# Altium footprint library CONN_HDR_MINI.PcbLib: 37 footprints (part 2 of 3)
Each footprint in its own frame and in the unit in brackets; x right, y up, seen from the top. Pads: shape width x height; smd on the part's side, far side on the other; paste and mask are expansions set on the pad; w line width, h text height; cw(c..) or ccw(c..) is an arc to the next point about the centre after c.
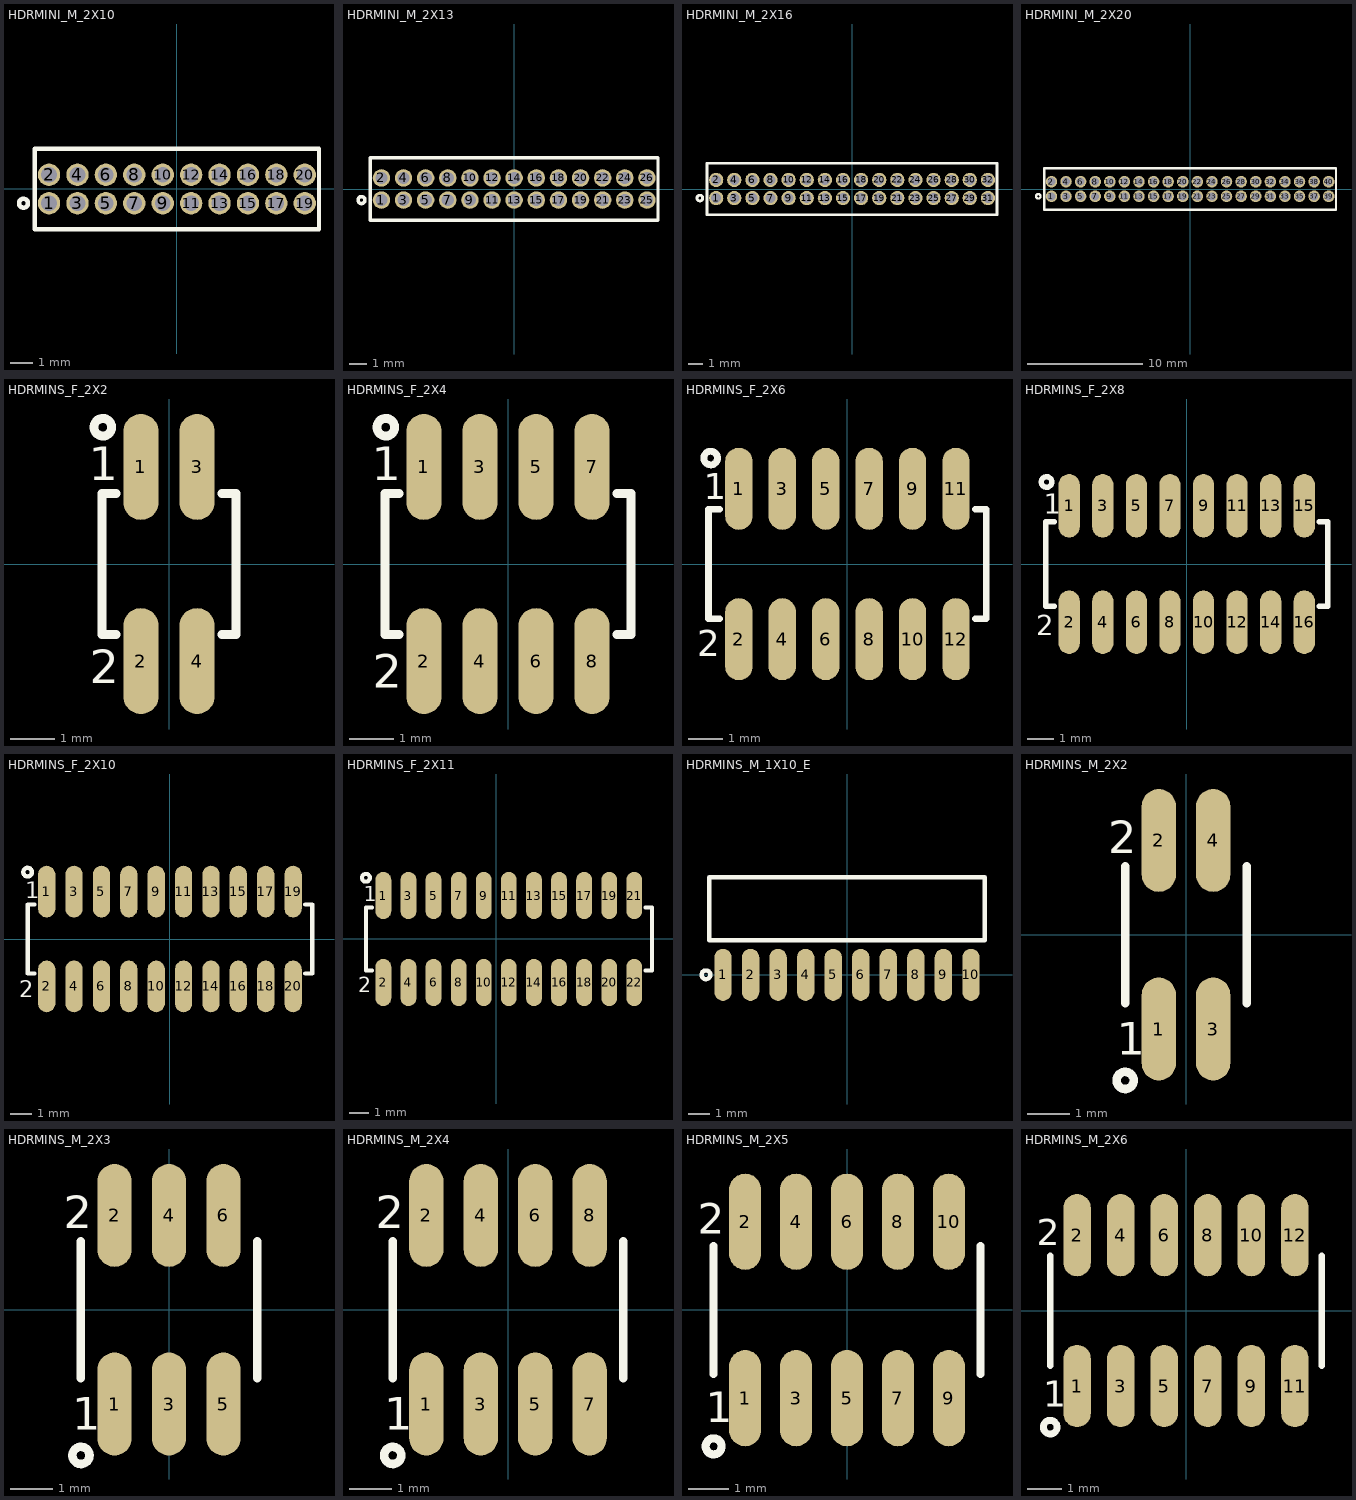
[diagram p1: the footprints below, top view; thin cyan lines are the x and y axes]

## HDRMINI_M_2X10 [mm] "mini header (50mil pitch)"
pads (20):
  round 1 hole 0.7 mask+0.05: 1(-5.715,-0.635) 2(-5.715,0.635) 3(-4.445,-0.635) 4(-4.445,0.635) 5(-3.175,-0.635) 6(-3.175,0.635) 7(-1.905,-0.635) 8(-1.905,0.635) 9(-0.635,-0.635) 10(-0.635,0.635) 11(0.635,-0.635) 12(0.635,0.635) 13(1.905,-0.635) 14(1.905,0.635) 15(3.175,-0.635) 16(3.175,0.635) 17(4.445,-0.635) 18(4.445,0.635) 19(5.715,-0.635) 20(5.715,0.635)
Top Overlay:
  circle w0.2: c-6.858,-0.635 r0.2
  lines w0.2: -6.35,-1.8 -6.35,1.8 6.35,1.8 6.35,-1.8 -6.35,-1.8
3D body "20021111-00004XXLFc.stp": height 5.6, standoff -2.25, extent 3.81,-1.7 6.35,1.7
3D body "20021111-00004XXLFc.stp": height 5.6, standoff -2.25, extent -1.27,-1.7 1.27,1.7
3D body "20021111-00004XXLFc.stp": height 5.6, standoff -2.25, extent 1.27,-1.7 3.81,1.7
3D body "20021111-00004XXLFc.stp": height 5.6, standoff -2.25, extent -6.35,-1.7 -3.81,1.7
3D body "20021111-00004XXLFc.stp": height 5.6, standoff -2.25, extent -3.81,-1.7 -1.27,1.7

## HDRMINI_M_2X13 [mm] "mini header (50mil pitch)"
pads (26):
  round 1 hole 0.7 mask+0.05: 1(-7.62,-0.635) 2(-7.62,0.635) 3(-6.35,-0.635) 4(-6.35,0.635) 5(-5.08,-0.635) 6(-5.08,0.635) 7(-3.81,-0.635) 8(-3.81,0.635) 9(-2.54,-0.635) 10(-2.54,0.635) 11(-1.27,-0.635) 12(-1.27,0.635) 13(0,-0.635) 14(0,0.635) 15(1.27,-0.635) 16(1.27,0.635) 17(2.54,-0.635) 18(2.54,0.635) 19(3.81,-0.635) 20(3.81,0.635) 21(5.08,-0.635) 22(5.08,0.635) 23(6.35,-0.635) 24(6.35,0.635) 25(7.62,-0.635) 26(7.62,0.635)
Top Overlay:
  circle w0.2: c-8.763,-0.635 r0.2
  lines w0.2: -8.255,-1.8 -8.255,1.8 8.255,1.8 8.255,-1.8 -8.255,-1.8
3D body "20021111-00004XXLFc.stp": height 5.6, standoff -2.25, extent 1.905,-1.7 4.445,1.7
3D body "20021111-00004XXLFc.stp": height 5.6, standoff -2.25, extent -3.175,-1.7 -0.635,1.7
3D body "20021111-00004XXLFc.stp": height 5.6, standoff -2.25, extent -0.635,-1.7 1.905,1.7
3D body "20021111-00004XXLFc.stp": height 5.6, standoff -2.25, extent -8.255,-1.7 -5.715,1.7
3D body "20021111-00004XXLFc.stp": height 5.6, standoff -2.25, extent -5.715,-1.7 -3.175,1.7
3D body "20021111-00006XXLFc.stp": height 5.6, standoff -2.25, extent 4.445,-1.7 8.255,1.7

## HDRMINI_M_2X16 [mm] "mini header (50mil pitch)"
pads (32):
  round 1 hole 0.7 mask+0.05: 1(-9.525,-0.635) 2(-9.525,0.635) 3(-8.255,-0.635) 4(-8.255,0.635) 5(-6.985,-0.635) 6(-6.985,0.635) 7(-5.715,-0.635) 8(-5.715,0.635) 9(-4.445,-0.635) 10(-4.445,0.635) 11(-3.175,-0.635) 12(-3.175,0.635) 13(-1.905,-0.635) 14(-1.905,0.635) 15(-0.635,-0.635) 16(-0.635,0.635) 17(0.635,-0.635) 18(0.635,0.635) 19(1.905,-0.635) 20(1.905,0.635) 21(3.175,-0.635) 22(3.175,0.635) 23(4.445,-0.635) 24(4.445,0.635) 25(5.715,-0.635) 26(5.715,0.635) 27(6.985,-0.635) 28(6.985,0.635) 29(8.255,-0.635) 30(8.255,0.635) 31(9.525,-0.635) 32(9.525,0.635)
Top Overlay:
  circle w0.2: c-10.668,-0.635 r0.2
  lines w0.2: -10.16,-1.8 10.16,-1.8 10.16,1.8 -10.16,1.8 -10.16,-1.8
3D body "20021111-00004XXLFc.stp": height 5.6, standoff -2.25, extent -5.08,-1.7 -2.54,1.7
3D body "20021111-00004XXLFc.stp": height 5.6, standoff -2.25, extent -2.54,-1.7 0,1.7
3D body "20021111-00004XXLFc.stp": height 5.6, standoff -2.25, extent -10.16,-1.7 -7.62,1.7
3D body "20021111-00004XXLFc.stp": height 5.6, standoff -2.25, extent -7.62,-1.7 -5.08,1.7
3D body "20021111-00004XXLFc.stp": height 5.6, standoff -2.25, extent 5.08,-1.7 7.62,1.7
3D body "20021111-00004XXLFc.stp": height 5.6, standoff -2.25, extent 7.62,-1.7 10.16,1.7
3D body "20021111-00004XXLFc.stp": height 5.6, standoff -2.25, extent 0,-1.7 2.54,1.7
3D body "20021111-00004XXLFc.stp": height 5.6, standoff -2.25, extent 2.54,-1.7 5.08,1.7

## HDRMINI_M_2X20 [mm] "mini header (50mil pitch)"
pads (40):
  round 1 hole 0.7 mask+0.05: 1(-12.065,-0.635) 2(-12.065,0.635) 3(-10.795,-0.635) 4(-10.795,0.635) 5(-9.525,-0.635) 6(-9.525,0.635) 7(-8.255,-0.635) 8(-8.255,0.635) 9(-6.985,-0.635) 10(-6.985,0.635) 11(-5.715,-0.635) 12(-5.715,0.635) 13(-4.445,-0.635) 14(-4.445,0.635) 15(-3.175,-0.635) 16(-3.175,0.635) 17(-1.905,-0.635) 18(-1.905,0.635) 19(-0.635,-0.635) 20(-0.635,0.635) 21(0.635,-0.635) 22(0.635,0.635) 23(1.905,-0.635) 24(1.905,0.635) 25(3.175,-0.635) 26(3.175,0.635) 27(4.445,-0.635) 28(4.445,0.635) 29(5.715,-0.635) 30(5.715,0.635) 31(6.985,-0.635) 32(6.985,0.635) 33(8.255,-0.635) 34(8.255,0.635) 35(9.525,-0.635) 36(9.525,0.635) 37(10.795,-0.635) 38(10.795,0.635) 39(12.065,-0.635) 40(12.065,0.635)
Top Overlay:
  circle w0.2: c-13.208,-0.635 r0.2
  lines w0.2: -12.7,-1.8 -12.7,1.8 12.7,1.8 12.7,-1.8 -12.7,-1.8
3D body "20021111-00004XXLFc.stp": height 5.6, standoff -2.25, extent 10.16,-1.7 12.7,1.7
3D body "20021111-00004XXLFc.stp": height 5.6, standoff -2.25, extent 7.62,-1.7 10.16,1.7
3D body "20021111-00004XXLFc.stp": height 5.6, standoff -2.25, extent 0,-1.7 2.54,1.7
3D body "20021111-00004XXLFc.stp": height 5.6, standoff -2.25, extent -2.54,-1.7 0,1.7
3D body "20021111-00004XXLFc.stp": height 5.6, standoff -2.25, extent 5.08,-1.7 7.62,1.7
3D body "20021111-00004XXLFc.stp": height 5.6, standoff -2.25, extent 2.54,-1.7 5.08,1.7
3D body "20021111-00004XXLFc.stp": height 5.6, standoff -2.25, extent -10.16,-1.7 -7.62,1.7
3D body "20021111-00004XXLFc.stp": height 5.6, standoff -2.25, extent -12.7,-1.7 -10.16,1.7
3D body "20021111-00004XXLFc.stp": height 5.6, standoff -2.25, extent -5.08,-1.7 -2.54,1.7
3D body "20021111-00004XXLFc.stp": height 5.6, standoff -2.25, extent -7.62,-1.7 -5.08,1.7

## HDRMINS_F_2X2 [mm] "HEADER FEMALE, SMT, 4, 1.27mm"
pads (4):
  oval 0.8x2.4 smd: 1(-0.635,2.2) 2(-0.635,-2.2) 3(0.635,2.2) 4(0.635,-2.2)
Top Overlay:
  circle w0.2: c-1.5,3.1 r0.2
  lines w0.2: -1.2,-1.6 -1.52,-1.6 -1.52,1.6 -1.2,1.6 ; 1.2,-1.6 1.52,-1.6 1.52,1.6 1.2,1.6
  text "2" at -1.8,-2.7 h0.76
  text "1" at -1.82,1.9 h0.76
3D body "User Library-1_27x1_27-SMD-female-2x2.step": height 4.5, standoff 0, extent -1.46,-2.3 1.46,2.3

## HDRMINS_F_2X4 [mm] "HEADER FEMALE, SMT, 8, 1.27mm"
pads (8):
  oval 0.8x2.4 smd: 1(-1.905,2.2) 2(-1.905,-2.2) 3(-0.635,2.2) 4(-0.635,-2.2) 5(0.635,2.2) 6(0.635,-2.2) 7(1.905,2.2) 8(1.905,-2.2)
Top Overlay:
  circle w0.2: c-2.77,3.1 r0.2
  lines w0.2: -2.47,-1.6 -2.79,-1.6 -2.79,1.6 -2.47,1.6 ; 2.47,-1.6 2.79,-1.6 2.79,1.6 2.47,1.6
  text "1" at -3.09,1.9 h0.76
  text "2" at -3.07,-2.8 h0.76
3D body "User Library-1_27x1_27-SMD-female-2x2.step": height 4.5, standoff 0, extent -0.19,-2.3 2.73,2.3
3D body "User Library-1_27x1_27-SMD-female-2x2.step": height 4.5, standoff 0, extent -2.73,-2.3 0.19,2.3

## HDRMINS_F_2X6 [mm] "HEADER FEMALE, SMT, 12, 1.27mm"
pads (12):
  oval 0.8x2.4 smd: 1(-3.175,2.2) 2(-3.175,-2.2) 3(-1.905,2.2) 4(-1.905,-2.2) 5(-0.635,2.2) 6(-0.635,-2.2) 7(0.635,2.2) 8(0.635,-2.2) 9(1.905,2.2) 10(1.905,-2.2) 11(3.175,2.2) 12(3.175,-2.2)
Top Overlay:
  circle w0.2: c-4,3.1 r0.2
  lines w0.2: -3.74,-1.6 -4.06,-1.6 -4.06,1.6 -3.74,1.6 ; 3.74,-1.6 4.06,-1.6 4.06,1.6 3.74,1.6
  text "1" at -4.2,1.9 h0.76
  text "2" at -4.4,-2.7 h0.76
3D body "User Library-1_27x1_27-SMD-female-2x2.step": height 4.5, standoff 0, extent 1.08,-2.3 4,2.3
3D body "User Library-1_27x1_27-SMD-female-2x2.step": height 4.5, standoff 0, extent -4,-2.3 -1.08,2.3
3D body "User Library-1_27x1_27-SMD-female-2x2.step": height 4.5, standoff 0, extent -1.46,-2.3 1.46,2.3

## HDRMINS_F_2X8 [mm] "HEADER FEMALE, SMT, 16, 1.27mm"
pads (16):
  oval 0.8x2.4 smd: 1(-4.445,2.2) 2(-4.445,-2.2) 3(-3.175,2.2) 4(-3.175,-2.2) 5(-1.905,2.2) 6(-1.905,-2.2) 7(-0.635,2.2) 8(-0.635,-2.2) 9(0.635,2.2) 10(0.635,-2.2) 11(1.905,2.2) 12(1.905,-2.2) 13(3.175,2.2) 14(3.175,-2.2) 15(4.445,2.2) 16(4.445,-2.2)
Top Overlay:
  circle w0.2: c-5.3,3.1 r0.2
  lines w0.2: -5.01,-1.6 -5.33,-1.6 -5.33,1.6 -5.01,1.6 ; 5.01,-1.6 5.33,-1.6 5.33,1.6 5.01,1.6
  text "2" at -5.7,-2.7 h0.76
  text "1" at -5.4,1.9 h0.76
3D body "User Library-1_27x1_27-SMD-female-2x2.step": height 4.5, standoff 0, extent 2.35,-2.3 5.27,2.3
3D body "User Library-1_27x1_27-SMD-female-2x2.step": height 4.5, standoff 0, extent -0.19,-2.3 2.73,2.3
3D body "User Library-1_27x1_27-SMD-female-2x2.step": height 4.5, standoff 0, extent -2.73,-2.3 0.19,2.3
3D body "User Library-1_27x1_27-SMD-female-2x2.step": height 4.5, standoff 0, extent -5.27,-2.3 -2.35,2.3

## HDRMINS_F_2X10 [mm] "HEADER FEMALE, SMT, 20, 1.27mm"
pads (20):
  oval 0.8x2.4 smd: 1(-5.715,2.2) 2(-5.715,-2.2) 3(-4.445,2.2) 4(-4.445,-2.2) 5(-3.175,2.2) 6(-3.175,-2.2) 7(-1.905,2.2) 8(-1.905,-2.2) 9(-0.635,2.2) 10(-0.635,-2.2) 11(0.635,2.2) 12(0.635,-2.2) 13(1.905,2.2) 14(1.905,-2.2) 15(3.175,2.2) 16(3.175,-2.2) 17(4.445,2.2) 18(4.445,-2.2) 19(5.715,2.2) 20(5.715,-2.2)
Top Overlay:
  circle w0.2: c-6.6,3.1 r0.2
  lines w0.2: -6.28,-1.6 -6.6,-1.6 -6.6,1.6 -6.28,1.6 ; 6.28,-1.6 6.6,-1.6 6.6,1.6 6.28,1.6
  text "2" at -7,-2.7 h0.76
  text "1" at -6.7,1.9 h0.76
3D body "User Library-1_27x1_27-SMD-female-2x2.step": height 4.5, standoff 0, extent -6.54,-2.3 -3.62,2.3
3D body "User Library-1_27x1_27-SMD-female-2x2.step": height 4.5, standoff 0, extent -4,-2.3 -1.08,2.3
3D body "User Library-1_27x1_27-SMD-female-2x2.step": height 4.5, standoff 0, extent -1.46,-2.3 1.46,2.3
3D body "User Library-1_27x1_27-SMD-female-2x2.step": height 4.5, standoff 0, extent 1.08,-2.3 4,2.3
3D body "User Library-1_27x1_27-SMD-female-2x2.step": height 4.5, standoff 0, extent 3.62,-2.3 6.54,2.3

## HDRMINS_F_2X11 [mm] "HEADER FEMALE, SMT, 20, 1.27mm"
pads (22):
  oval 0.8x2.4 smd: 1(-5.715,2.2) 2(-5.715,-2.2) 3(-4.445,2.2) 4(-4.445,-2.2) 5(-3.175,2.2) 6(-3.175,-2.2) 7(-1.905,2.2) 8(-1.905,-2.2) 9(-0.635,2.2) 10(-0.635,-2.2) 11(0.635,2.2) 12(0.635,-2.2) 13(1.905,2.2) 14(1.905,-2.2) 15(3.175,2.2) 16(3.175,-2.2) 17(4.445,2.2) 18(4.445,-2.2) 19(5.715,2.2) 20(5.715,-2.2) 21(6.985,2.2) 22(6.985,-2.2)
Top Overlay:
  circle w0.2: c-6.6,3.1 r0.2
  lines w0.2: -6.28,-1.6 -6.6,-1.6 -6.6,1.6 -6.28,1.6 ; 7.55,-1.6 7.87,-1.6 7.87,1.6 7.55,1.6
  text "2" at -7,-2.7 h0.76
  text "1" at -6.7,1.9 h0.76
3D body "User Library-1_27x1_27-SMD-female-2x2.step": height 4.5, standoff 0, extent -6.54,-2.3 -3.62,2.3
3D body "User Library-1_27x1_27-SMD-female-2x2.step": height 4.5, standoff 0, extent -4,-2.3 -1.08,2.3
3D body "User Library-1_27x1_27-SMD-female-2x2.step": height 4.5, standoff 0, extent -1.46,-2.3 1.46,2.3
3D body "User Library-1_27x1_27-SMD-female-2x2.step": height 4.5, standoff 0, extent 1.08,-2.3 4,2.3
3D body "User Library-1_27x1_27-SMD-female-2x2.step": height 4.5, standoff 0, extent 3.62,-2.3 6.54,2.3

## HDRMINS_M_1X10_E [mm] "mini header (50mil pitch)"
pads (10):
  oval 0.8x2.4 smd mask+0.05: 1(-5.715,0) 2(-4.445,0) 3(-3.175,0) 4(-1.905,0) 5(-0.635,0) 6(0.635,0) 7(1.905,0) 8(3.175,0) 9(4.445,0) 10(5.715,0)
Top Overlay:
  circle w0.2: c-6.5,0 r0.2
  lines w0.2: -6.35,1.6 6.35,1.6 6.35,4.5 -6.35,4.5 -6.35,1.6
3D body: height 0.84, standoff -0.44, extent -6.35,1.6 -5.08,4.4
3D body: height 0.4, standoff 0, extent -5.915,-0.9 -5.515,8.9
3D body: height 0.4, standoff 0, extent -4.645,-0.9 -4.245,8.9
3D body: height 0.84, standoff -0.44, extent -5.08,1.6 -3.81,4.4
3D body: height 0.4, standoff 0, extent -3.375,-0.9 -2.975,8.9
3D body: height 0.84, standoff -0.44, extent -3.81,1.6 -2.54,4.4
3D body: height 0.4, standoff 0, extent -2.105,-0.9 -1.705,8.9
3D body: height 0.84, standoff -0.44, extent -2.54,1.6 -1.27,4.4
3D body: height 0.4, standoff 0, extent -0.835,-0.9 -0.435,8.9
3D body: height 0.84, standoff -0.44, extent -1.27,1.6 0,4.4
3D body: height 0.4, standoff 0, extent 0.435,-0.9 0.835,8.9
3D body: height 0.84, standoff -0.44, extent 0,1.6 1.27,4.4
3D body: height 0.4, standoff 0, extent 1.705,-0.9 2.105,8.9
3D body: height 0.84, standoff -0.44, extent 1.27,1.6 2.54,4.4
3D body: height 0.4, standoff 0, extent 2.975,-0.9 3.375,8.9
3D body: height 0.84, standoff -0.44, extent 2.54,1.6 3.81,4.4
3D body: height 0.4, standoff 0, extent 4.245,-0.9 4.645,8.9
3D body: height 0.84, standoff -0.44, extent 3.81,1.6 5.08,4.4
3D body: height 0.4, standoff 0, extent 5.515,-0.9 5.915,8.9
3D body: height 0.84, standoff -0.44, extent 5.08,1.6 6.35,4.4

## HDRMINS_M_2X2 [mm] "FCI Minitek127® BTB, HEADER UNSHROUDED, SMT, 4, 1.27mm"
pads (4):
  oval 0.8x2.4 smd: 1(-0.635,-2.2) 2(-0.635,2.2) 3(0.635,-2.2) 4(0.635,2.2)
Top Overlay:
  circle w0.2: c-1.42,-3.4 r0.2
  lines w0.2: -1.42,-1.6 -1.42,1.6 ; 1.42,-1.6 1.42,1.6
  text "1" at -1.62,-2.8 h0.76
  text "2" at -1.82,1.9 h0.76
3D body "20021121-00004XXLFc.stp": height 4.5, standoff 0, extent -1.27,-2.75 1.27,2.75

## HDRMINS_M_2X3 [mm] "FCI Minitek127® BTB, HEADER UNSHROUDED, SMT, 6, 1.27mm"
pads (6):
  oval 0.8x2.4 smd: 1(-1.27,-2.2) 2(-1.27,2.2) 3(0,-2.2) 4(0,2.2) 5(1.27,-2.2) 6(1.27,2.2)
Top Overlay:
  circle w0.2: c-2.055,-3.4 r0.2
  lines w0.2: -2.055,-1.6 -2.055,1.6 ; 2.055,-1.6 2.055,1.6
  text "1" at -2.255,-2.8 h0.76
  text "2" at -2.455,1.9 h0.76
3D body "20021121-00006XXLFc.stp": height 4.5, standoff 0, extent -1.905,-2.75 1.905,2.75

## HDRMINS_M_2X4 [mm] "FCI Minitek127® BTB, HEADER UNSHROUDED, SMT, 8, 1.27mm"
pads (8):
  oval 0.8x2.4 smd: 1(-1.905,-2.2) 2(-1.905,2.2) 3(-0.635,-2.2) 4(-0.635,2.2) 5(0.635,-2.2) 6(0.635,2.2) 7(1.905,-2.2) 8(1.905,2.2)
Top Overlay:
  circle w0.2: c-2.69,-3.4 r0.2
  lines w0.2: -2.69,-1.6 -2.69,1.6 ; 2.69,-1.6 2.69,1.6
  text "2" at -3.09,1.9 h0.76
  text "1" at -2.89,-2.8 h0.76
3D body "20021121-00004XXLFc.stp": height 4.5, standoff 0, extent 0,-2.75 2.54,2.75
3D body "20021121-00004XXLFc.stp": height 4.5, standoff 0, extent -2.54,-2.75 0,2.75

## HDRMINS_M_2X5 [mm] "FCI Minitek127® BTB, HEADER UNSHROUDED, SMT, 10, 1.27mm"
pads (10):
  oval 0.8x2.4 smd: 1(-2.54,-2.2) 2(-2.54,2.2) 3(-1.27,-2.2) 4(-1.27,2.2) 5(0,-2.2) 6(0,2.2) 7(1.27,-2.2) 8(1.27,2.2) 9(2.54,-2.2) 10(2.54,2.2)
Top Overlay:
  circle w0.2: c-3.325,-3.4 r0.2
  lines w0.2: -3.325,-1.6 -3.325,1.6 ; 3.325,-1.6 3.325,1.6
  text "2" at -3.725,1.9 h0.76
  text "1" at -3.525,-2.8 h0.76
3D body "20021121-00004XXLFc.stp": height 4.5, standoff 0, extent -3.175,-2.75 -0.635,2.75
3D body "20021121-00006XXLFc.stp": height 4.5, standoff 0, extent -0.635,-2.75 3.175,2.75

## HDRMINS_M_2X6 [mm] "FCI Minitek127® BTB, HEADER UNSHROUDED, SMT, 12, 1.27mm"
pads (12):
  oval 0.8x2.4 smd: 1(-3.175,-2.2) 2(-3.175,2.2) 3(-1.905,-2.2) 4(-1.905,2.2) 5(-0.635,-2.2) 6(-0.635,2.2) 7(0.635,-2.2) 8(0.635,2.2) 9(1.905,-2.2) 10(1.905,2.2) 11(3.175,-2.2) 12(3.175,2.2)
Top Overlay:
  circle w0.2: c-3.96,-3.4 r0.2
  lines w0.2: -3.96,-1.6 -3.96,1.6 ; 3.96,-1.6 3.96,1.6
  text "2" at -4.36,1.9 h0.76
  text "1" at -4.16,-2.8 h0.76
3D body "20021121-00004XXLFc.stp": height 4.5, standoff 0, extent 1.27,-2.75 3.81,2.75
3D body "20021121-00004XXLFc.stp": height 4.5, standoff 0, extent -1.27,-2.75 1.27,2.75
3D body "20021121-00004XXLFc.stp": height 4.5, standoff 0, extent -3.81,-2.75 -1.27,2.75